# EAGLE library part IC-LM3281YFQR (library wolff-den)
3.3-V, 1.2-A, 6-MHz Mini Step-Down DC-DC Converter 6-DSBGA -30 to 90 Check prices <https://pricing.snapeda.com/parts/LM3281YFQR/Texas%20Instruments/view-part?ref=eda>
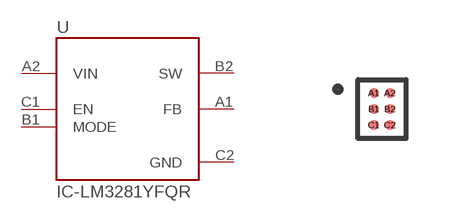
[diagram p9: symbol with the pads of BGA6N40P2X3_116X143X67N; footprint BGA6N40P2X3_116X143X67N]

Designator prefix U

## IC-LM3281YFQR (DESC: 3.3-V, 1.2-A, 6-MHz Mini Step-Down DC-DC Converter 6-DSBGA -30 to 90; MF: Texas Instruments; MPN: LM3281YFQR)  [BGA6N40P2X3_116X143X67N]
A1  FB  in
A2  VIN  in
B1  MODE  in
B2  SW  out
C1  EN  in
C2  GND  pwr

## Footprint BGA6N40P2X3_116X143X67N (pad centres in mm)
smd 0.25 x 0.25: A1 -0.2,0.4; A2 0.2,0.4; B1 -0.2,0; B2 0.2,0; C1 -0.2,-0.4; C2 0.2,-0.4